# EAGLE library part REG_LT3081 (library power_distro)
1.5A Single Resistor Rugged Linear Regulator with Monitors Extended Safe Operating Area Maximum Output Current: 1.5A Stable with or without Input/Output Capacitors Wide Input Voltage Range: 1.2V to 36V Single Resistor Sets Output Voltage Output Current Monitor: IMON = IOUT/5000 Junction Temperature Monitor: 1µA/°C Output Adjustable to 0V 50µA SET Pin Current: 1% Initial Accuracy Output Voltage Noise: 27µVRMS Parallel Multiple Devices for Higher Current or Heat Spreading Programmable Current Limit Reverse-Battery and Reverse-Current Protection <1mV Load Regulation Typical Independent of VOUT <0.001%/V Line Regulation Typical Available in Thermally-Enhanced 12-Lead 4mm × 4mm DFN and 16-Lead TSSOP, 7-Lead DD-Pak and 7-Lead TO-220
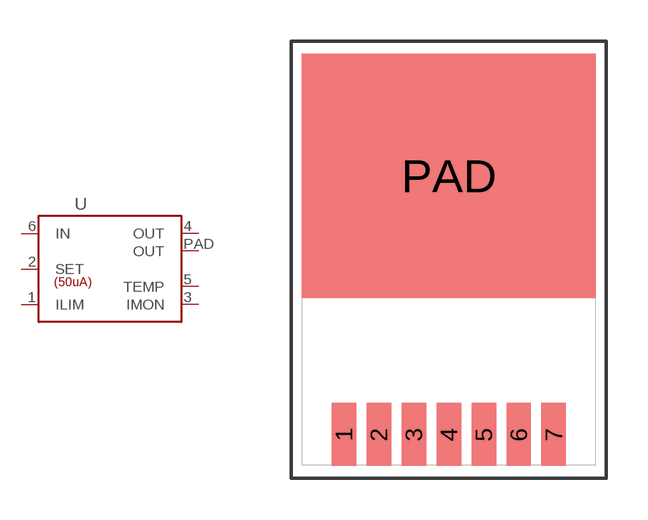
[diagram p0: symbol with the pads of DD-7_LINEARTECH; footprint DD-7_LINEARTECH]

Designator prefix U

## REG_LT3081 (MFG: LINEAR TECH; MPN: LT3081ER; PRICE: 6.25; SOLIDWORKS_CONFIG: Default; SOLIDWORKS_FILE: D2PAK_7pin.SLDASM; VENDOR: DIGIKEY; VPN: LT3081ER#PBF-ND)  [DD-7_LINEARTECH]
1  ILIM  pas
2  SET  pas
3  IMON  pas
4  OUT  pas
5  TEMP  pas
6  IN  pas
PAD  OUT  pas

## Footprint DD-7_LINEARTECH (pad centres in mm)
7-LEAD PLASTIC DDPAK TJMAX = 125°C, ?JA = 15°C/W, ?JC = 3°C/W
smd 0.889 x 2.286: 1 -3.81,-6.35; 2 -2.54,-6.35; 3 -1.27,-6.35; 4 0,-6.35; 5 1.27,-6.35; 6 2.54,-6.35; 7 3.81,-6.35
smd 10.668 x 8.89: PAD 0,3.048